# Altium schematic symbol library sch.SchLib: 25 symbols
Pins are listed as number, name and electrical type; pins without a type are passive.

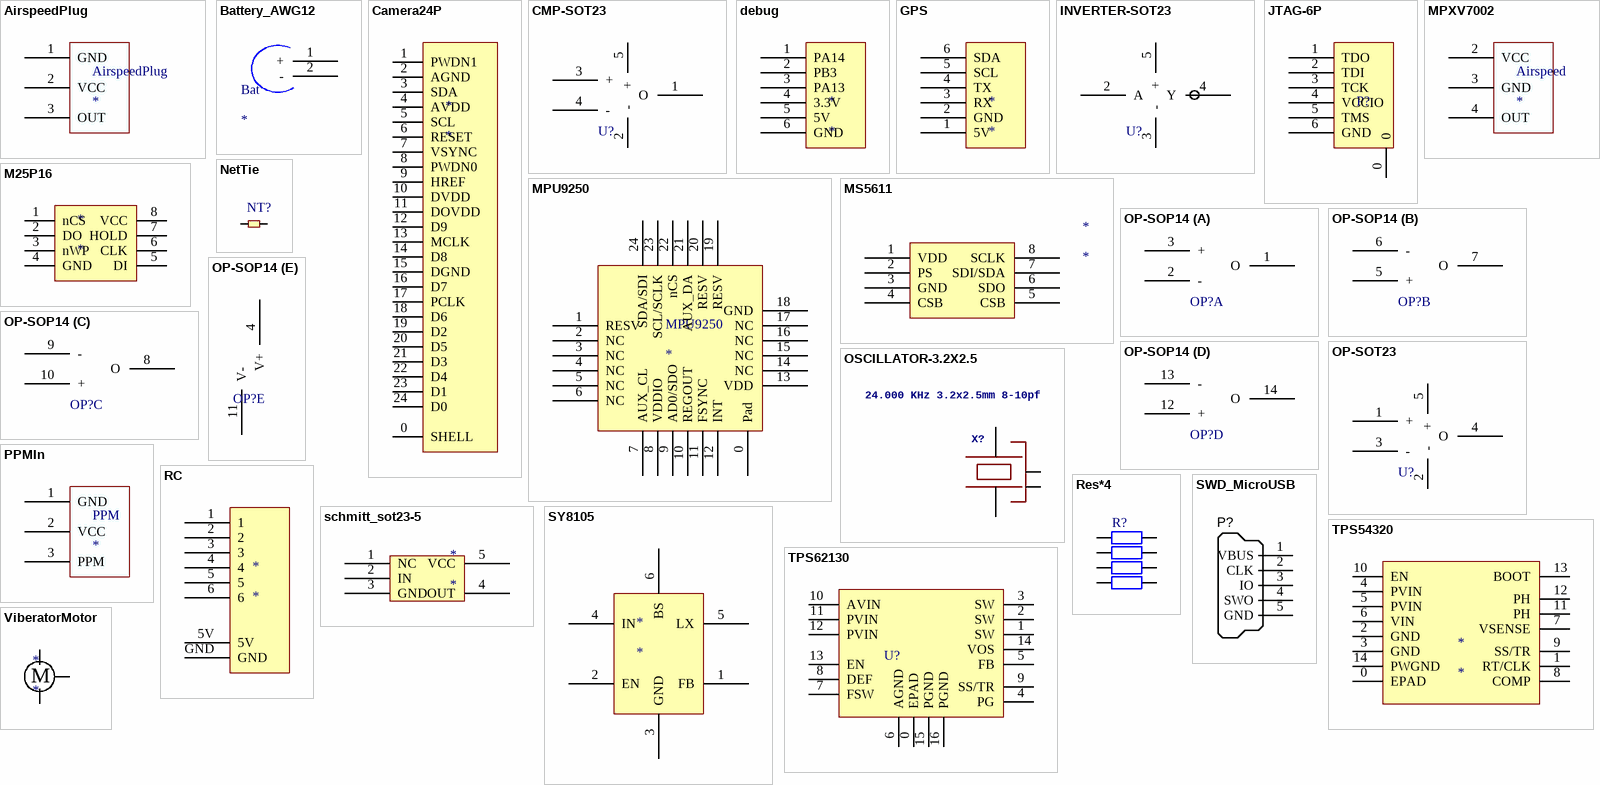
[diagram p0: symbols AirspeedPlug to ViberatorMotor]

## AirspeedPlug
designator AirspeedPlug
footprint ServoConnector
pins: 1 GND, 2 VCC, 3 OUT

## Battery_AWG12
designator Bat
footprint Battery_AWG12
pins: 1 +, 2 -

## Camera24P
designator *
footprint FPC-0.5mm-24
pins: 0 SHELL, 1 PWDN1, 2 AGND, 3 SDA, 4 AVDD, 5 SCL, 6 RESET, 7 VSYNC, 8 PWDN0, 9 HREF, 10 DVDD, 11 DOVDD, 12 D9, 13 MCLK, 14 D8, 15 DGND, 16 D7, 17 PCLK, 18 D6, 19 D2, 20 D5, 21 D3, 22 D4, 23 D1, 24 D0

## CMP-SOT23
designator U?
footprint SOT23-5
pins: 1 O, 2 -, 3 +, 4 -, 5 +

## debug
designator *
footprint WFRSM125
pins: 1 PA14, 2 PB3, 3 PA13, 4 3.3V, 5 5V, 6 GND

## GPS
designator *
footprint WFRSM125
pins: 1 5V, 2 GND, 3 RX, 4 TX, 5 SCL, 6 SDA

## INVERTER-SOT23
designator U?
footprint SOT23-5
pins: 2 A, 3 -, 4 Y, 5 +

## JTAG-6P
designator P?  (value not drawn)
footprint GH1.25-6
pins: 0, 1 TDO, 2 TDI, 3 TCK, 4 VCCIO, 5 TMS, 6 GND

## M25P16
designator *
footprint SO8
pins: 1 nCS, 2 DO, 3 nWP, 4 GND, 5 DI, 6 CLK, 7 HOLD, 8 VCC

## MPU9250
designator MPU9250
footprint MPU9250
pins: 0 Pad, 1 RESV, 2 NC, 3 NC, 4 NC, 5 NC, 6 NC, 7 AUX_CL, 8 VDDIO, 9 AD0/SDO, 10 REGOUT, 11 FSYNC, 12 INT, 13 VDD, 14 NC, 15 NC, 16 NC, 17 NC, 18 GND, 19 RESV, 20 RESV, 21 AUX_DA, 22 nCS, 23 SCL/SCLK, 24 SDA/SDI

## MPXV7002
designator Airspeed
pins: 2 VCC, 3 GND, 4 OUT

## MS5611
designator *
footprint MS5611
pins: 1 VDD, 2 PS, 3 GND, 4 CSB, 5 CSB, 6 SDO, 7 SDI/SDA, 8 SCLK

## NetTie
designator NT?  (value not drawn)
footprint NetTie1
pins: 1, 2

## OP-SOP14
designator OP?, comment MCP6024  (value not drawn)
part A pins: 1 O, 2 -, 3 +
part B pins: 5 +, 6 -, 7 O
part C pins: 8 O, 9 -, 10 +
part D pins: 12 +, 13 -, 14 O
part E pins: 4 V+, 11 V-

## OP-SOT23
designator U?
footprint SOT23-5
pins: 1 +, 2 -, 3 -, 4 O, 5 +

## OSCILLATOR-3.2X2.5
designator X?, comment 24.000 KHz 3.2x2.5mm 8-10pf
Crystal Oscillator in 3.2x2.5 SMD
footprint OSCILLATOR-3.2X2.5
pins: 1, 2 NC_2 (oe), 3, 4 NC_4 (oe)

## PPMIn
designator PPM
footprint ServoConnector
pins: 1 GND, 2 VCC, 3 PPM

## RC
designator *
footprint 6P
pins: 1, 2, 3, 4, 5, 5V, 6, GND

## Res*4
designator R?
Resistor; Value: 0Ohm; Published: 8-Jun-2000; LatestRevisionDate: 17-Jul-2002; LatestRevisionNote: Re-released for DXP Platform.; PackageReference: AXIAL-0.4; Publisher: Altium Limited; PackageDescription: Axial Device, Thru-Hole; 2 Leads; 0.4 in Pin Spacing
footprint 0402X4
pins: 1, 2, 3, 4, 5, 6, 7, 8

## schmitt_sot23-5
designator *
footprint SOT23-5
pins: 1 NC, 2 IN, 3 GND, 4 OUT, 5 VCC

## SWD_MicroUSB
designator P?
Connector SMD USB Micro Type B middle mount; Manufacturer 1: Molex Inc; SCDType: undef; Package / Case: SMD; Supplier 1: Digi-Key; Supplier Part Number 1: WM17142CT-ND
footprint USB
footprint MICRO-YZX
pins: 1 VBUS, 2 CLK, 3 IO, 4 SWO, 5 GND

## SY8105
designator *
pins: 1 FB, 2 EN, 3 GND, 4 IN, 5 LX, 6 BS

## TPS54320
designator *
footprint TPS54320
pins: 0 EPAD, 1 RT/CLK, 2 GND, 3 GND, 4 PVIN, 5 PVIN, 6 VIN, 7 VSENSE, 8 COMP, 9 SS/TR, 10 EN, 11 PH, 12 PH, 13 BOOT, 14 PWGND

## TPS62130
designator U?  (value not drawn)
footprint TPS62130
pins: 0 EPAD, 1 SW, 2 SW, 3 SW, 4 PG, 5 FB, 6 AGND, 7 FSW, 8 DEF, 9 SS/TR, 10 AVIN, 11 PVIN, 12 PVIN, 13 EN, 14 VOS, 15 PGND, 16 PGND

## ViberatorMotor
designator *
footprint VibratorMotor
pins: 3, 4, 5
text: M